# Altium footprint library XFCN_TT56145145-1520.PcbLib: 1 footprints
Each footprint in its own frame and in the unit in brackets; x right, y up, seen from the top. Pads: shape width x height; smd on the part's side, far side on the other; paste and mask are expansions set on the pad; w line width, h text height; cw(c..) or ccw(c..) is an arc to the next point about the centre after c.
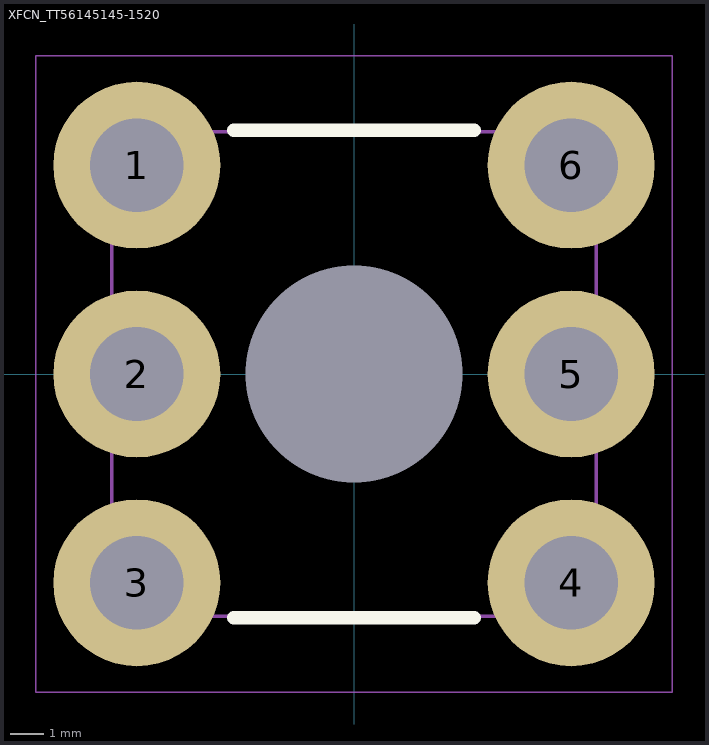
[diagram p0: the footprint, top view; thin cyan lines are the x and y axes]

## XFCN_TT56145145-1520 [mm]
height 11.7
pads (7):
  round 5 hole 2.8: 1(-6.5,6.25) 2(-6.5,0) 3(-6.5,-6.25) 4(6.5,-6.25) 5(6.5,0) 6(6.5,6.25)
  round 0 hole 6.5 unplated: 7(0,0)
Top Overlay:
  lines w0.4: -3.6,-7.3 3.6,-7.3 ; -3.6,7.3 3.6,7.3
Mechanical 13:
  lines w0.1: -7.25,-7.25 -7.25,7.25 7.25,7.25 7.25,-7.25 -7.25,-7.25
Mechanical 15:
  lines w0.05: -9.525,-9.525 9.525,-9.525 9.525,9.525 -9.525,9.525 -9.525,-9.525
  lines w0.1: -0.5,0 0.5,0 ; 0,-0.5 0,0.5
3D body "XFCN_TT56145145-1520.step": height 11.2, standoff -4, extent -7.25,-7.25 7.25,7.25